# EAGLE library part STD020M07X1 (library con-pinheader-standard)
male standard header 2mm
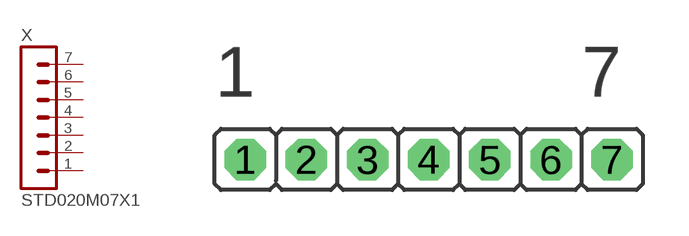
[diagram p36: symbol with the pads of STD020M07X1-2.00; footprint STD020M07X1-2.00]

Designator prefix X

## STD020M07X1-2.00MM  [STD020M07X1-2.00]
1  1  pas
2  2  pas
3  3  pas
4  4  pas
5  5  pas
6  6  pas
7  7  pas

## Footprint STD020M07X1-2.00 (pad centres in mm)
male standard header 2mm
drill 0.85 octagon: 1 -6,0; 2 -4,0; 3 -2,0; 4 0,0; 5 2,0; 6 4,0; 7 6,0